# Altium footprint library display.PcbLib: 2 footprints
Each footprint in its own frame and in the unit in brackets; x right, y up, seen from the top. Pads: shape width x height; smd on the part's side, far side on the other; paste and mask are expansions set on the pad; w line width, h text height; cw(c..) or ccw(c..) is an arc to the next point about the centre after c.
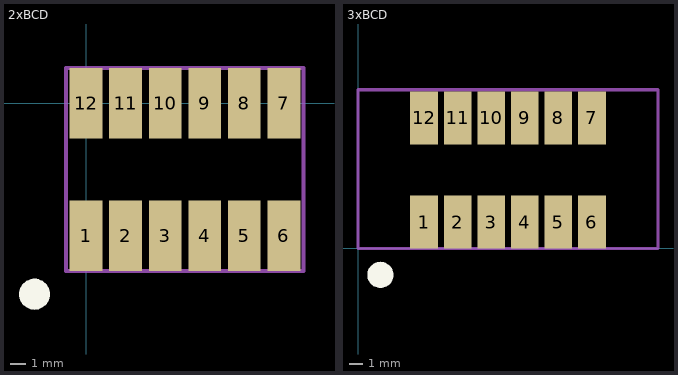
[diagram p0: the footprints below, top view; thin cyan lines are the x and y axes]

## 2xBCD [mm]
pads (13):
  rect 2.1x4.5 smd: 1(0,-8.5) 2(2.54,-8.5) 3(5.08,-8.5) 4(7.62,-8.5) 5(10.16,-8.5) 6(12.7,-8.5) 7(12.7,0) 8(10.16,0) 9(7.62,0) 10(5.08,0) 11(2.54,0) 12(0,0)
  round 2 on Top Overlay: ""(-3.3,-12.25)
Mechanical 1:
  lines w0.254: -1.27,-10.75 13.97,-10.75 13.97,2.25 -1.27,2.25 -1.27,-6.375 -1.27,-10.75
3D body: height 3.75, standoff 0, extent -1.016,-10.75 13.716,2.25

## 3xBCD [mm]
pads (13):
  rect 2.1x4 smd: 1(5,2) 2(7.54,2) 3(10.08,2) 4(12.62,2) 5(15.16,2) 6(17.7,2) 7(17.7,9.874) 8(15.16,9.874) 9(12.62,9.874) 10(10.08,9.874) 11(7.54,9.874) 12(5,9.874)
  round 2 on Top Overlay: ""(1.7,-2)
Mechanical 1:
  lines w0.254: 0,0 22.7,0 22.7,12 0,12 0,0
3D body: height 3.75, standoff 0, extent 0,0 22.75,12